# Altium footprint library T4145515041-001.PcbLib: 1 footprints
Each footprint in its own frame and in the unit in brackets; x right, y up, seen from the top. Pads: shape width x height; smd on the part's side, far side on the other; paste and mask are expansions set on the pad; w line width, h text height; cw(c..) or ccw(c..) is an arc to the next point about the centre after c.
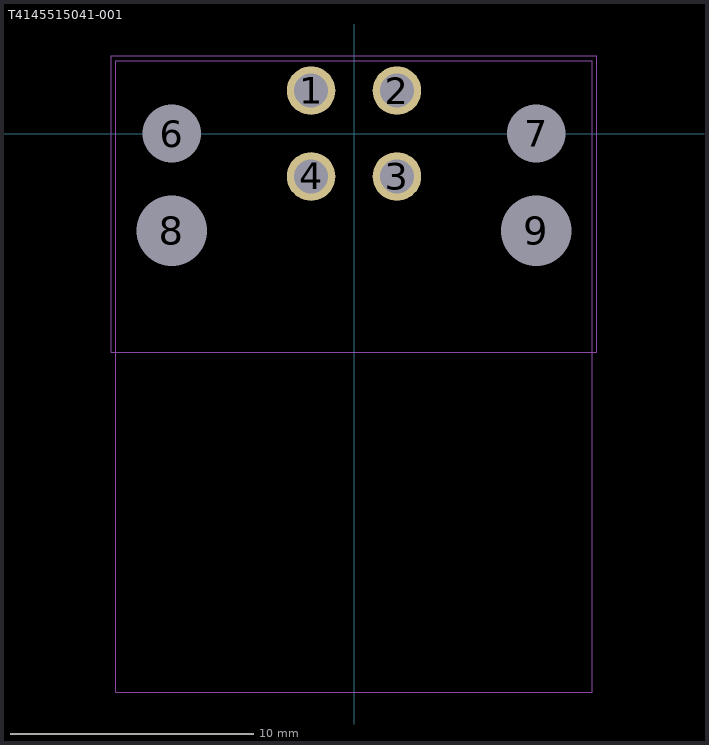
[diagram p0: the footprint, top view; thin cyan lines are the x and y axes]

## T4145515041-001 [mm]
pads (8):
  round 2 hole 1.4 mask+0.05: 1(-1.768,1.768) 2(1.768,1.768) 3(1.768,-1.768) 4(-1.768,-1.768)
  round 2 hole 2.4 unplated mask+0.05: 6(-7.5,0) 7(7.5,0)
  round 2.8 hole 2.9 unplated mask+0.05: 8(-7.5,-4) 9(7.5,-4)
Top Assembly:
  lines w0.05: -9.8,-23 9.8,-23 9.8,3 -9.8,3 -9.8,-23
Top Courtyard:
  lines w0.05: -10,-9 -10,3.2 10,3.2 10,-9 -10,-9
3D body "c-t4145515041-001-a-3d.stp": height 16, standoff -3.6, extent -9.75,-23 9.75,3